# Altium footprint library G2R-2-DPDT.PcbLib: 1 footprints
Each footprint in its own frame and in the unit in brackets; x right, y up, seen from the top. Pads: shape width x height; smd on the part's side, far side on the other; paste and mask are expansions set on the pad; w line width, h text height; cw(c..) or ccw(c..) is an arc to the next point about the centre after c.
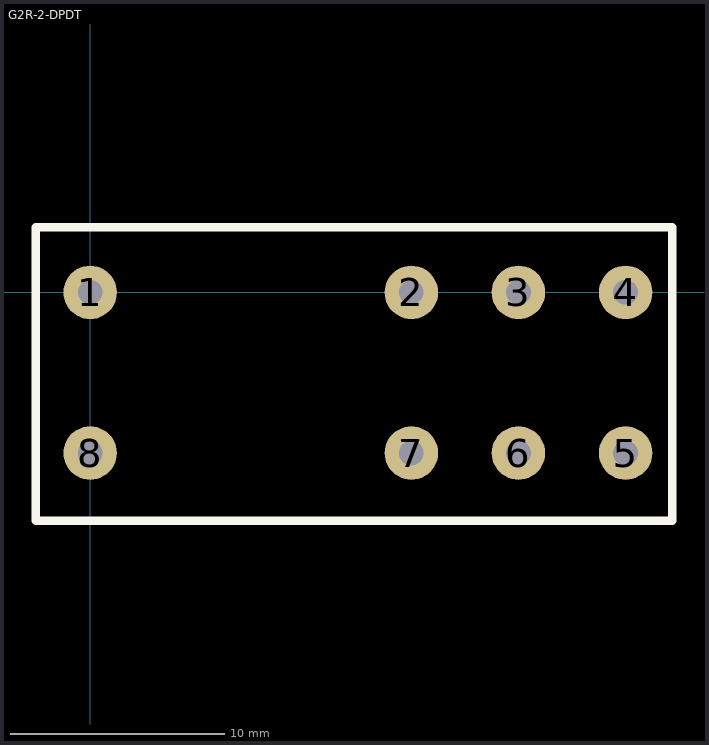
[diagram p0: the footprint, top view; thin cyan lines are the x and y axes]

## G2R-2-DPDT [mm]
height 25
pads (8):
  round 2.5 hole 1.15: 1(0,0) 2(15,0) 3(20,0) 4(25,0) 5(25,-7.5) 6(20,-7.5) 7(15,-7.5) 8(0,-7.5)
Top Overlay:
  lines w0.4: -2.54,-10.668 -2.54,3.048 27.178,3.048 27.178,-10.668 -2.54,-10.668
3D body "g2r-2z-2h_l29_w13_h25-5.x_t": height 25.5, standoff -4, extent -2.1,-10.3 26.9,2.7